# EAGLE library part PUSB2X4YH (library sjg-isolation)
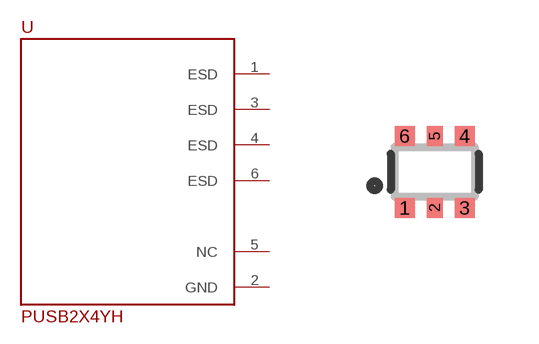
[diagram p2: symbol with the pads of SOT363; footprint SOT363]

Designator prefix -

## PUSB2X4YH  [SOT363]
1  ESD
2  GND
3  ESD
4  ESD
5  NC
6  ESD

## Footprint SOT363 (pad centres in mm)
Source: http://www.nxp.com/documents/data_sheet/2N7002PS.pdf
smd 0.5 x 0.5: 1 -0.75,-0.9; 3 0.75,-0.9; 4 0.75,0.9; 6 -0.75,0.9
smd 0.4 x 0.5: 2 0,-0.9; 5 0,0.9